# EAGLE library part ISO6721FQDWVRQ1 (library ISO6721FQDWVRQ1)
Digital Isolators Automotive, general-purpose, dual-channel, 1/1 digital isolator Source: Datasheet <https://www.ti.com/lit/gpn/ISO6721-Q1>
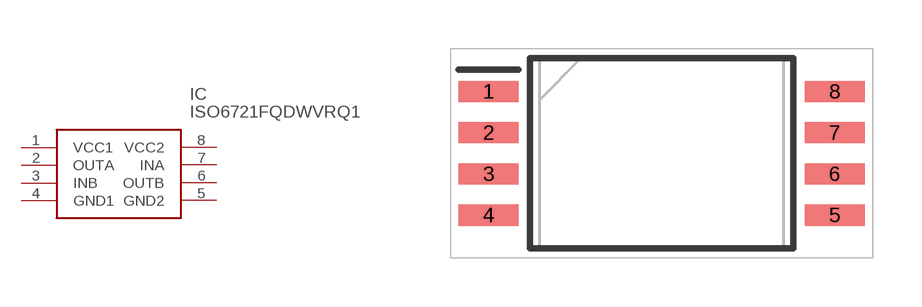
[diagram p0: symbol with the pads of SOIC127P1150X280-8N; footprint SOIC127P1150X280-8N]

Designator prefix IC

## ISO6721FQDWVRQ1 (Description: Digital Isolators Automotive, general-purpose, dual-channel, 1/1 digital isolator; Height: 2.8mm; Manufacturer_Name: Texas Instruments; Manufacturer_Part_Number: ISO6721FQDWVRQ1; Mouser_Part_Number: 595-ISO6721FQDWVRQ1; Mouser_Price-Stock: https://www.mouser.co.uk/ProductDetail/Texas-Instruments/ISO6721FQDWVRQ1?qs=TuK3vfAjtkVdnWQ4lceCiA%3D%3D)  [SOIC127P1150X280-8N]
1  VCC1
2  OUTA
3  INB
4  GND1
5  GND2
6  OUTB
7  INA
8  VCC2

## Footprint SOIC127P1150X280-8N (pad centres in mm)
DWV Package 8-Pin SOIC
smd 1.85 x 0.65: 1 -5.325,1.905; 2 -5.325,0.635; 3 -5.325,-0.635; 4 -5.325,-1.905; 5 5.325,-1.905; 6 5.325,-0.635; 7 5.325,0.635; 8 5.325,1.905